# Altium footprint library CapacitoresIntiSat.PCBLIB: 196 footprints (part 3 of 13)
Each footprint in its own frame and in the unit in brackets; x right, y up, seen from the top. Pads: shape width x height; smd on the part's side, far side on the other; paste and mask are expansions set on the pad; w line width, h text height; cw(c..) or ccw(c..) is an arc to the next point about the centre after c.
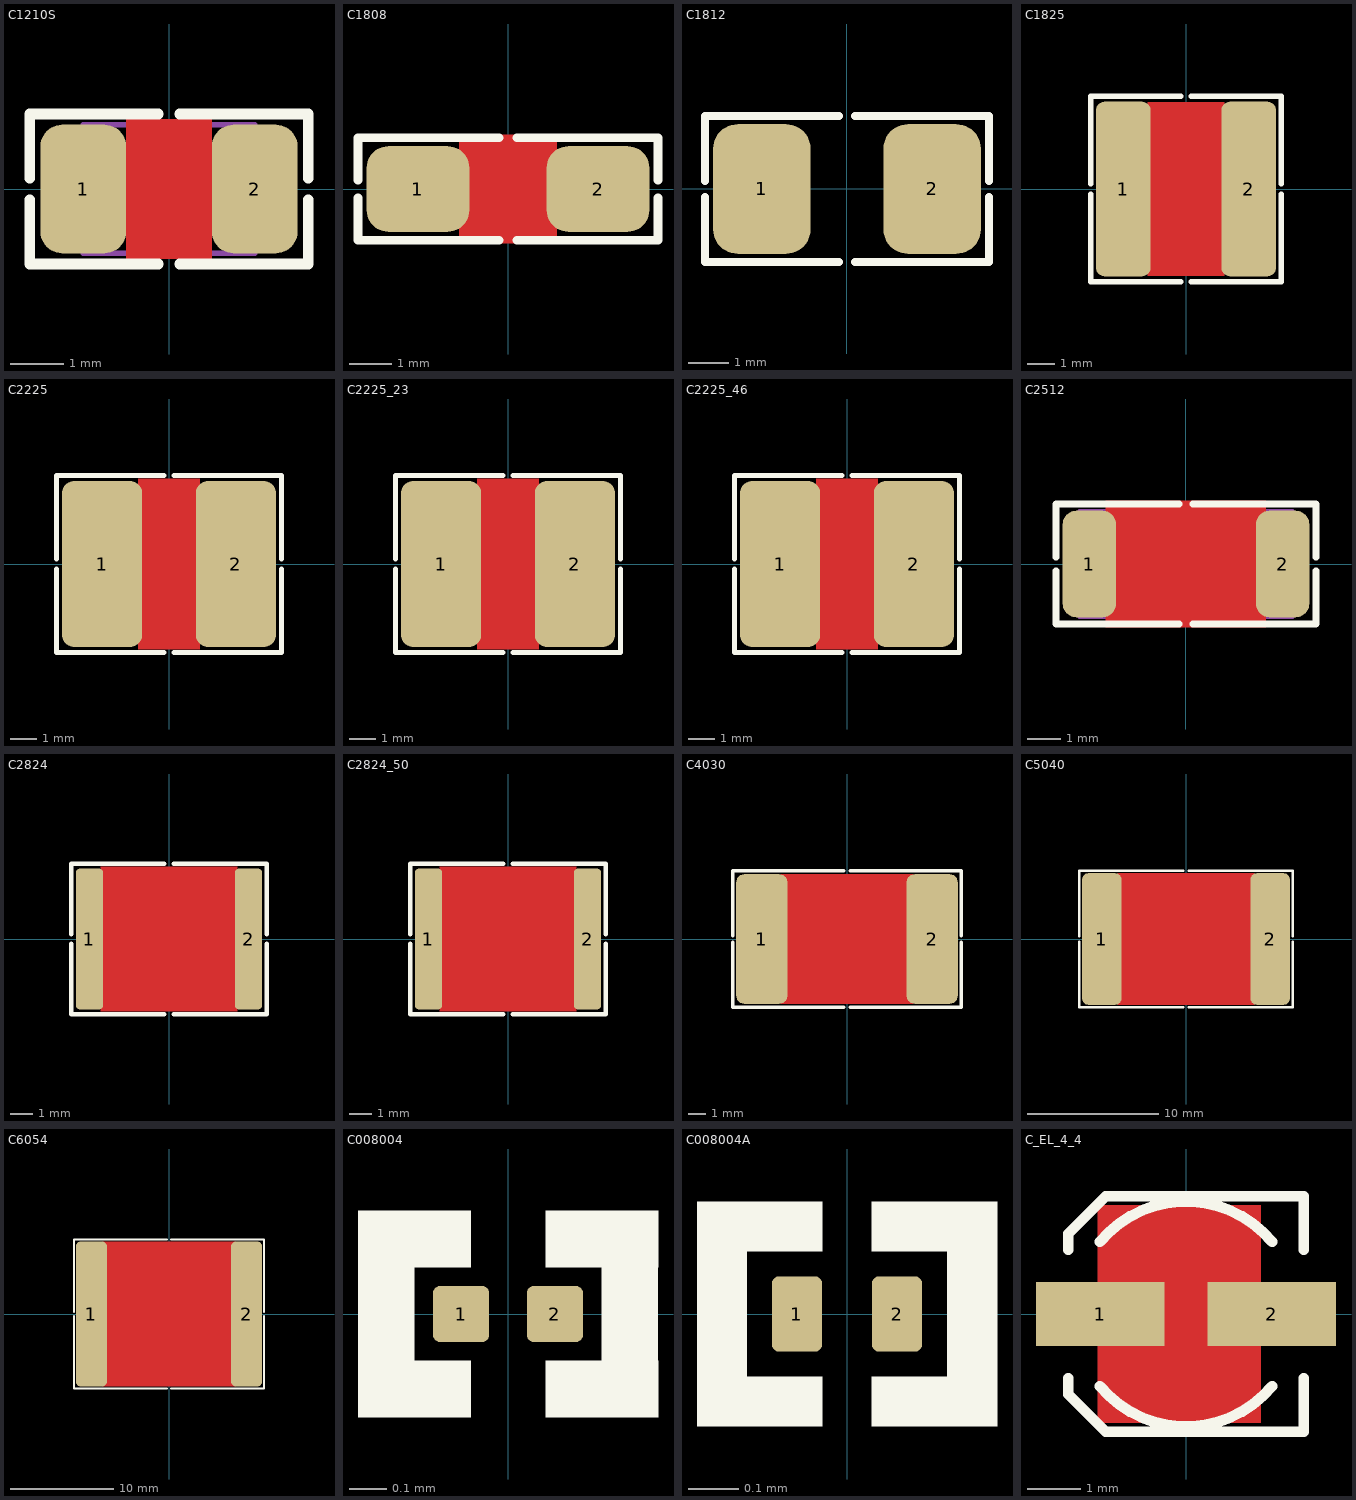
[diagram p2: the footprints below, top view; thin cyan lines are the x and y axes]

## C1210S [mm] "CHIP Capacitor, 3.2X2.5mm, 1210, 3225, Soldered"
pads (2):
  rrect50% 1.6x2.4 smd mask+0.075: 1(-1.6,0) 2(1.6,0)
Top Layer:
  pour cut-out: -0.8,1.3 -0.8,-1.3 0.8,-1.3 0.8,1.3
Top Overlay:
  lines w0.2: -2.6,-0.2 -2.6,-1.4 -0.2,-1.4 ; -2.6,0.2 -2.6,1.4 -0.2,1.4 ; 0.2,-1.4 2.6,-1.4 2.6,-0.2 ; 0.2,1.4 2.6,1.4 2.6,0.2
Mechanical 13:
  lines w0.1: -1.6,-1.2 -1.6,1.2 1.6,1.2 1.6,-1.2 -1.6,-1.2
3D body "c1210_Cap.step": height 1.61, standoff 0, extent -2.47,-1.25 2.47,1.25

## C1808 [mm] "CHIP Capacitor, 4.6X2.0mm, 1808, 1806, 4620, 4520"
pads (2):
  rrect50% 2.4x2 smd: 1(-2.1,0) 2(2.1,0)
Top Layer:
  pour cut-out: -1.143,1.27 1.143,1.27 1.143,-1.27 -1.143,-1.27
Top Overlay:
  lines w0.2: -3.5,-0.2 -3.5,-1.2 -0.2,-1.2 ; -3.5,0.2 -3.5,1.2 -0.2,1.2 ; 0.2,-1.2 3.5,-1.2 3.5,-0.2 ; 0.2,1.2 3.5,1.2 3.5,0.2
3D body "User Library-Chip Cap_MLCC_1808 (4520)_D.step": height 1.25, standoff 0, extent -2.25,-1 2.25,1.03

## C1812 [mm] "Chip Capacitor, 4.5x3.2mm, 1612, 1812, 4532"
height 2.5
pads (2):
  rrect50% 2.4x3.2 smd mask+0.075: 1(-2.1,0) 2(2.1,0)
Top Overlay:
  lines w0.2: -3.5,-0.2 -3.5,-1.8 -0.2,-1.8 ; -3.5,0.2 -3.5,1.8 -0.2,1.8 ; 0.2,-1.8 3.5,-1.8 3.5,-0.2 ; 0.2,1.8 3.5,1.8 3.5,0.2
3D body "User Library-Chip Cap_MLCC_1812 4532)_M.step": height 2.5, standoff 0, extent -2.25,-1.6 2.25,1.6

## C1825 [mm] "Chip Capacitor, 4.5x6.4mm, 1825, 4564"
pads (2):
  rrect30% 2x6.4 smd: 1(-2.3,0) 2(2.3,0)
Top Layer:
  pour cut-out: 1.397,3.175 1.397,-3.175 -1.397,-3.175 -1.397,3.175
Top Overlay:
  lines w0.2: -3.5,-0.2 -3.5,-3.4 -0.2,-3.4 ; -3.5,0.2 -3.5,3.4 -0.2,3.4 ; 0.2,-3.4 3.5,-3.4 3.5,-0.2 ; 0.2,3.4 3.5,3.4 3.5,0.2
3D body "User Library-CAPC4564X15.step": height 1.5, standoff 0, extent -2.25,-3.2 2.25,3.2

## C2225 [mm] "Chip Capacitor, 5.6x6.4mm, 2225, 5664, 2220"
pads (2):
  rrect30% 3x6.2 smd: 1(-2.5,0) 2(2.5,0)
Top Layer:
  pour cut-out: -1.143,3.175 1.143,3.175 1.143,-3.175 -1.143,-3.175
Top Overlay:
  lines w0.2: -4.2,-0.2 -4.2,-3.302 -0.2,-3.302 ; -4.2,0.2 -4.2,3.302 -0.2,3.302 ; 0.2,-3.302 4.2,-3.302 4.2,-0.2 ; 0.2,3.302 4.2,3.302 4.2,0.2
3D body "User Library-2225(inch)_(5664x14metric).step": height 1.4, standoff 0, extent -2.8,-3.2 2.8,3.2

## C2225_23 [mm] "Chip Capacitor, 5.6x6.4mm, 2225, 5664, 2220"
height 2.3
pads (2):
  rrect30% 3x6.2 smd: 1(-2.5,0) 2(2.5,0)
Top Layer:
  pour cut-out: -1.143,3.175 1.143,3.175 1.143,-3.175 -1.143,-3.175
Top Overlay:
  lines w0.2: -4.2,-0.2 -4.2,-3.302 -0.2,-3.302 ; -4.2,0.2 -4.2,3.302 -0.2,3.302 ; 0.2,-3.302 4.2,-3.302 4.2,-0.2 ; 0.2,3.302 4.2,3.302 4.2,0.2
3D body "User Library-CAPC5750X23.step": height 2.3, standoff 0, extent -2.85,-2.5 2.85,2.5

## C2225_46 [mm] "Chip Capacitor, 5.6x6.4mm, 2225, 5664, 2220"
height 4.6
pads (2):
  rrect30% 3x6.2 smd: 1(-2.5,0) 2(2.5,0)
Top Layer:
  pour cut-out: -1.143,3.175 1.143,3.175 1.143,-3.175 -1.143,-3.175
Top Overlay:
  lines w0.2: -4.2,-0.2 -4.2,-3.302 -0.2,-3.302 ; -4.2,0.2 -4.2,3.302 -0.2,3.302 ; 0.2,-3.302 4.2,-3.302 4.2,-0.2 ; 0.2,3.302 4.2,3.302 4.2,0.2
3D body: height 5, standoff 0, extent 2.86,-2.5 3.06,2.5
3D body: height 0.2, standoff 0, extent 1.45,-2.5 3.05,2.5
3D body "User Library-CAPC5750X23.step": height 4.8, standoff 2.5, extent -2.85,-2.5 2.85,2.5
3D body: height 0.2, standoff 0, extent -3.05,-2.5 -1.45,2.5
3D body: height 5, standoff 0, extent -3.06,-2.5 -2.86,2.5
3D body "User Library-CAPC5750X23.step": height 2.5, standoff 0.2, extent -2.85,-2.5 2.85,2.5

## C2512 [mm] "Chip Capacitor, 6.4x3.2mm, 2512, 6432"
height 1
pads (2):
  rrect50% 1.6x3.2 smd: 1(-2.9,0) 2(2.9,0)
Top Layer:
  pour cut-out: -2.4,1.9 2.4,1.9 2.4,-1.9 -2.4,-1.9
Top Overlay:
  lines w0.2: -3.9,-0.2 -3.9,-1.8 -0.2,-1.8 ; -3.9,0.2 -3.9,1.8 -0.2,1.8 ; 0.2,-1.8 3.9,-1.8 3.9,-0.2 ; 0.2,1.8 3.9,1.8 3.9,0.2
Mechanical 13:
  lines w0.1: -3.2,-1.6 -3.2,1.6 3.2,1.6 3.2,-1.6 -3.2,-1.6
3D body "User Library-smt_resistor_packages_C2512.step": height 0.61, standoff -0.01, extent -3.21,-1.61 3.21,1.61

## C2824 [mm] "Chip Capacitor, 7.2x6.1x3mm, 2824"
height 3
pads (2):
  rrect30% 1.2x6.2 smd: 1(-3.5,0) 2(3.5,0)
Top Layer:
  pour cut-out: -3,3.175 3,3.175 3,-3.175 -3,-3.175
Top Overlay:
  lines w0.2: -4.3,-0.2 -4.3,-3.302 -0.2,-3.302 ; -4.3,0.2 -4.3,3.302 -0.2,3.302 ; 0.2,-3.302 4.3,-3.302 4.3,-0.2 ; 0.2,3.302 4.3,3.302 4.3,0.2
3D body: height 3, standoff 0, extent -3.1,-3.05 3.1,3.05
3D body: height 3, standoff 0, extent -3.6,-3.05 -3.1,3.05
3D body: height 3, standoff 0, extent 3.1,-3.05 3.6,3.05

## C2824_50 [mm] "Chip Capacitor, 7.2x6.1x5mm, 2824"
height 5
pads (2):
  rrect30% 1.2x6.2 smd: 1(-3.5,0) 2(3.5,0)
Top Layer:
  pour cut-out: -3,3.175 3,3.175 3,-3.175 -3,-3.175
Top Overlay:
  lines w0.2: -4.3,-0.2 -4.3,-3.302 -0.2,-3.302 ; -4.3,0.2 -4.3,3.302 -0.2,3.302 ; 0.2,-3.302 4.3,-3.302 4.3,-0.2 ; 0.2,3.302 4.3,3.302 4.3,0.2
3D body: height 5, standoff 0, extent 3.1,-3.05 3.6,3.05
3D body: height 5, standoff 0, extent -3.6,-3.05 -3.1,3.05
3D body: height 5, standoff 0, extent -3.1,-3.05 3.1,3.05

## C4030 [mm] "Chip Capacitor, 10.2x7.6x5mm, 4030"
height 5
pads (2):
  rrect30% 3x7.6 smd: 1(-5,0) 2(5,0)
Top Layer:
  pour cut-out: -3.9,3.8 3.9,3.8 3.9,-3.8 -3.9,-3.8
Top Overlay:
  lines w0.2: -6.7,-0.2 -6.7,-4 -0.2,-4 ; -6.7,0.2 -6.7,4 -0.2,4 ; 0.2,-4 6.7,-4 6.7,-0.2 ; 0.2,4 6.7,4 6.7,0.2
3D body: height 5, standoff 0, extent 4.6,-3.8 5.1,3.8
3D body: height 5, standoff 0, extent -4.6,-3.8 4.6,3.8
3D body: height 5, standoff 0, extent -5.1,-3.8 -4.6,3.8

## C5040 [mm] "Chip Capacitor, 12.7x10.2x6mm, 5040"
height 6
pads (2):
  rrect30% 3x10 smd: 1(-6.4,0) 2(6.4,0)
Top Layer:
  pour cut-out: -5.2,5 5.2,5 5.2,-5 -5.2,-5
Top Overlay:
  lines w0.2: -8.1,-0.2 -8.1,-5.2 -0.2,-5.2 ; -8.1,0.2 -8.1,5.2 -0.2,5.2 ; 0.2,-5.2 8.1,-5.2 8.1,-0.2 ; 0.2,5.2 8.1,5.2 8.1,0.2
3D body: height 6, standoff 0, extent -6.35,-5.1 -5.65,5.1
3D body: height 6, standoff 0, extent -5.65,-5.1 5.65,5.1
3D body: height 6, standoff 0, extent 5.65,-5.1 6.35,5.1

## C6054 [mm] "Chip Capacitor, 15.3x13.7x7mm, 6054"
height 7
pads (2):
  rrect30% 3x14 smd mask+0.1: 1(-7.5,0)
  rrect30% 3x14 smd: 2(7.5,0)
Top Layer:
  pour cut-out: -6.4,7 6.4,7 6.4,-7 -6.4,-7
Top Overlay:
  lines w0.2: -9.2,-0.2 -9.2,-7.2 -0.2,-7.2 ; -9.2,0.2 -9.2,7.2 -0.2,7.2 ; 0.2,-7.2 9.2,-7.2 9.2,-0.2 ; 0.2,7.2 9.2,7.2 9.2,0.2
3D body: height 7, standoff 0, extent -6.95,-6.85 6.95,6.85
3D body: height 7, standoff 0, extent -7.65,-6.85 -6.95,6.85
3D body: height 7, standoff 0, extent 6.95,-6.85 7.65,6.85

## C008004 [mm] "CHIP Capacitor, 0.25x0.125mm, 008004, MK021, VS021"
height 0.125
pads (2):
  rrect25% 0.15x0.15 smd mask+0.05: 1(-0.125,0) 2(0.125,0)
Top Overlay:
  region: -0.4,0.125 -0.1,0.125 -0.1,0.275 -0.4,0.275
  region: -0.4,-0.125 -0.1,-0.125 -0.1,-0.275 -0.4,-0.275
  region: 0.4,-0.125 0.1,-0.125 0.1,-0.275 0.4,-0.275
  region: 0.4,0.125 0.1,0.125 0.1,0.275 0.4,0.275
  lines w0.15: -0.325,-0.2 -0.325,0.2 ; 0.325,-0.2 0.325,0.2
3D body: height 0.13, standoff 0, extent -0.125,-0.063 -0.063,0.062
3D body: height 0.13, standoff 0, extent -0.063,-0.063 0.062,0.062
3D body: height 0.13, standoff 0, extent 0.062,-0.063 0.125,0.062

## C008004A [mm] "CHIP Capacitor, 0.25x0.125mm, for PCBA"
height 0.125
pads (2):
  rrect25% 0.1x0.15 smd mask+0.05: 1(-0.1,0) 2(0.1,0)
Top Overlay:
  region: -0.3,0.125 -0.05,0.125 -0.05,0.225 -0.3,0.225
  region: -0.2,0.225 -0.2,-0.225 -0.3,-0.225 -0.3,0.225
  region: -0.3,-0.125 -0.05,-0.125 -0.05,-0.225 -0.3,-0.225
  region: 0.3,-0.125 0.05,-0.125 0.05,-0.225 0.3,-0.225
  region: 0.2,0.225 0.2,-0.225 0.3,-0.225 0.3,0.225
  region: 0.3,0.125 0.05,0.125 0.05,0.225 0.3,0.225
3D body: height 0.13, standoff 0, extent 0.062,-0.063 0.125,0.062
3D body: height 0.13, standoff 0, extent -0.063,-0.063 0.062,0.062
3D body: height 0.13, standoff 0, extent -0.125,-0.063 -0.063,0.062

## C_EL_4_4 [mm] "Electrolytic Cap, D: 4.3mm, Size B, 3.9mm Height"
height 3.9
pads (2):
  rect 2.4x1.2 smd: 1(-1.6,0) 2(1.6,0)
Top Layer:
  pour cut-out: 1.397,2.032 1.397,-2.032 -1.651,-2.032 -1.651,2.032
Top Overlay:
  lines w0.2: -2.2,-1.2 -2.2,-1.5 -1.5,-2.2 2.2,-2.2 2.2,-1.2 ; -2.2,1.2 -2.2,1.5 -1.5,2.2 2.2,2.2 2.2,1.2 ; -1.609,-1.35 ccw(c0,0) 1.609,-1.35 ; -1.609,1.35 cw(c0,0) 1.609,1.35
3D body "User Library-CAPSMD4x3_9.STEP": height 3.91, standoff 0, extent -2.257,-2.15 2.343,2.15